# EAGLE library part LTC6908-2DB (library linear-technology)
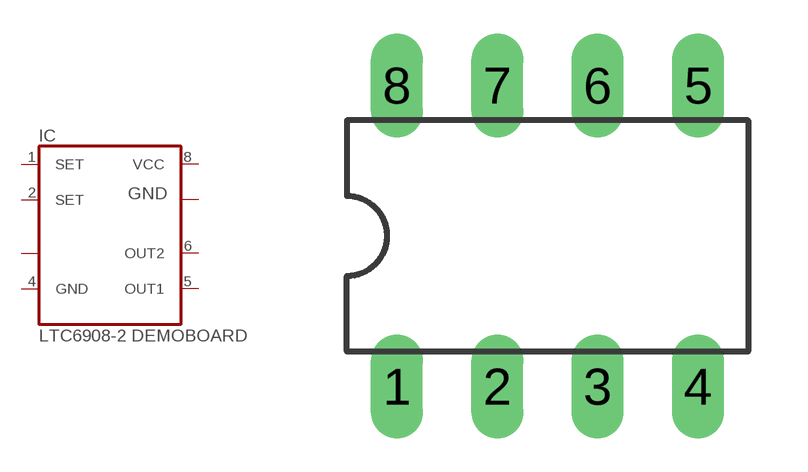
[diagram p56: symbol with the pads of DIL08; footprint DIL08]

Designator prefix IC

## LTC6908-2DB  [DIL08]
1  SET
2  SET
3  NC  nc
4  GND  pwr
5  OUT1  out
6  OUT2  out
7  GND  pwr
8  VCC  pwr

## Footprint DIL08 (pad centres in mm)
Dual In Line Package
drill 0.813 long: 1 -3.81,-3.81; 2 -1.27,-3.81; 3 1.27,-3.81; 4 3.81,-3.81; 5 3.81,3.81; 6 1.27,3.81; 7 -1.27,3.81; 8 -3.81,3.81